# Altium schematic symbol library Digital_Interfaces.SchLib: 2 symbols
Pins are listed as number, name and electrical type; pins without a type are passive.

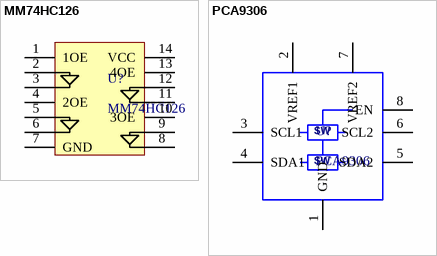
[diagram p0: symbols MM74HC126 to PCA9306]

## MM74HC126
designator U?
NXP Quad Buffer, MM74HC126; PartNumber: MM74HC126
footprint TSSOP14_MO153_4p4_N (TSOP, 14-Leads, Body 5.00x4.40mm, Pitch 0.65mm, IPC Medium Density)
pins: 1 1OE, 2 1A, 3 1Y, 4 2OE, 5 2A, 6 2Y, 7 GND, 8 3Y, 9 3A, 10 3OE, 11 4Y, 12 4A, 13 4OE, 14 VCC

## PCA9306
designator U?
I2C/SMBus level translator; Manufacturer: Texas Instruments; PartNumber: PCA9306; ComponentLink1Description: Datasheet; ComponentLink1URL: http://sv-code.cm.local/svn/datasheets/TI/level_translators/PCA9306/pca9306.pdf
footprint SOIC8N_127P600X175 (SOIC, 8-Leads, Body 4.90x3.90mm, Pitch 1.27mm, IPC Medium Density)
footprint TSSOP8_SOT505-1_NXP_N (TSOP, 8-Leads, Body 3.00x3.00mm, Pitch 0.65mm, IPC Medium Density)
pins: 1 GND, 2 VREF1, 3 SCL1, 4 SDA1, 5 SDA2, 6 SCL2, 7 VREF2, 8 EN
text: SW